# Altium footprint library sd2snes.PcbLib: 27 footprints (part 1 of 2)
Each footprint in its own frame and in the unit in brackets; x right, y up, seen from the top. Pads: shape width x height; smd on the part's side, far side on the other; paste and mask are expansions set on the pad; w line width, h text height; cw(c..) or ccw(c..) is an arc to the next point about the centre after c.
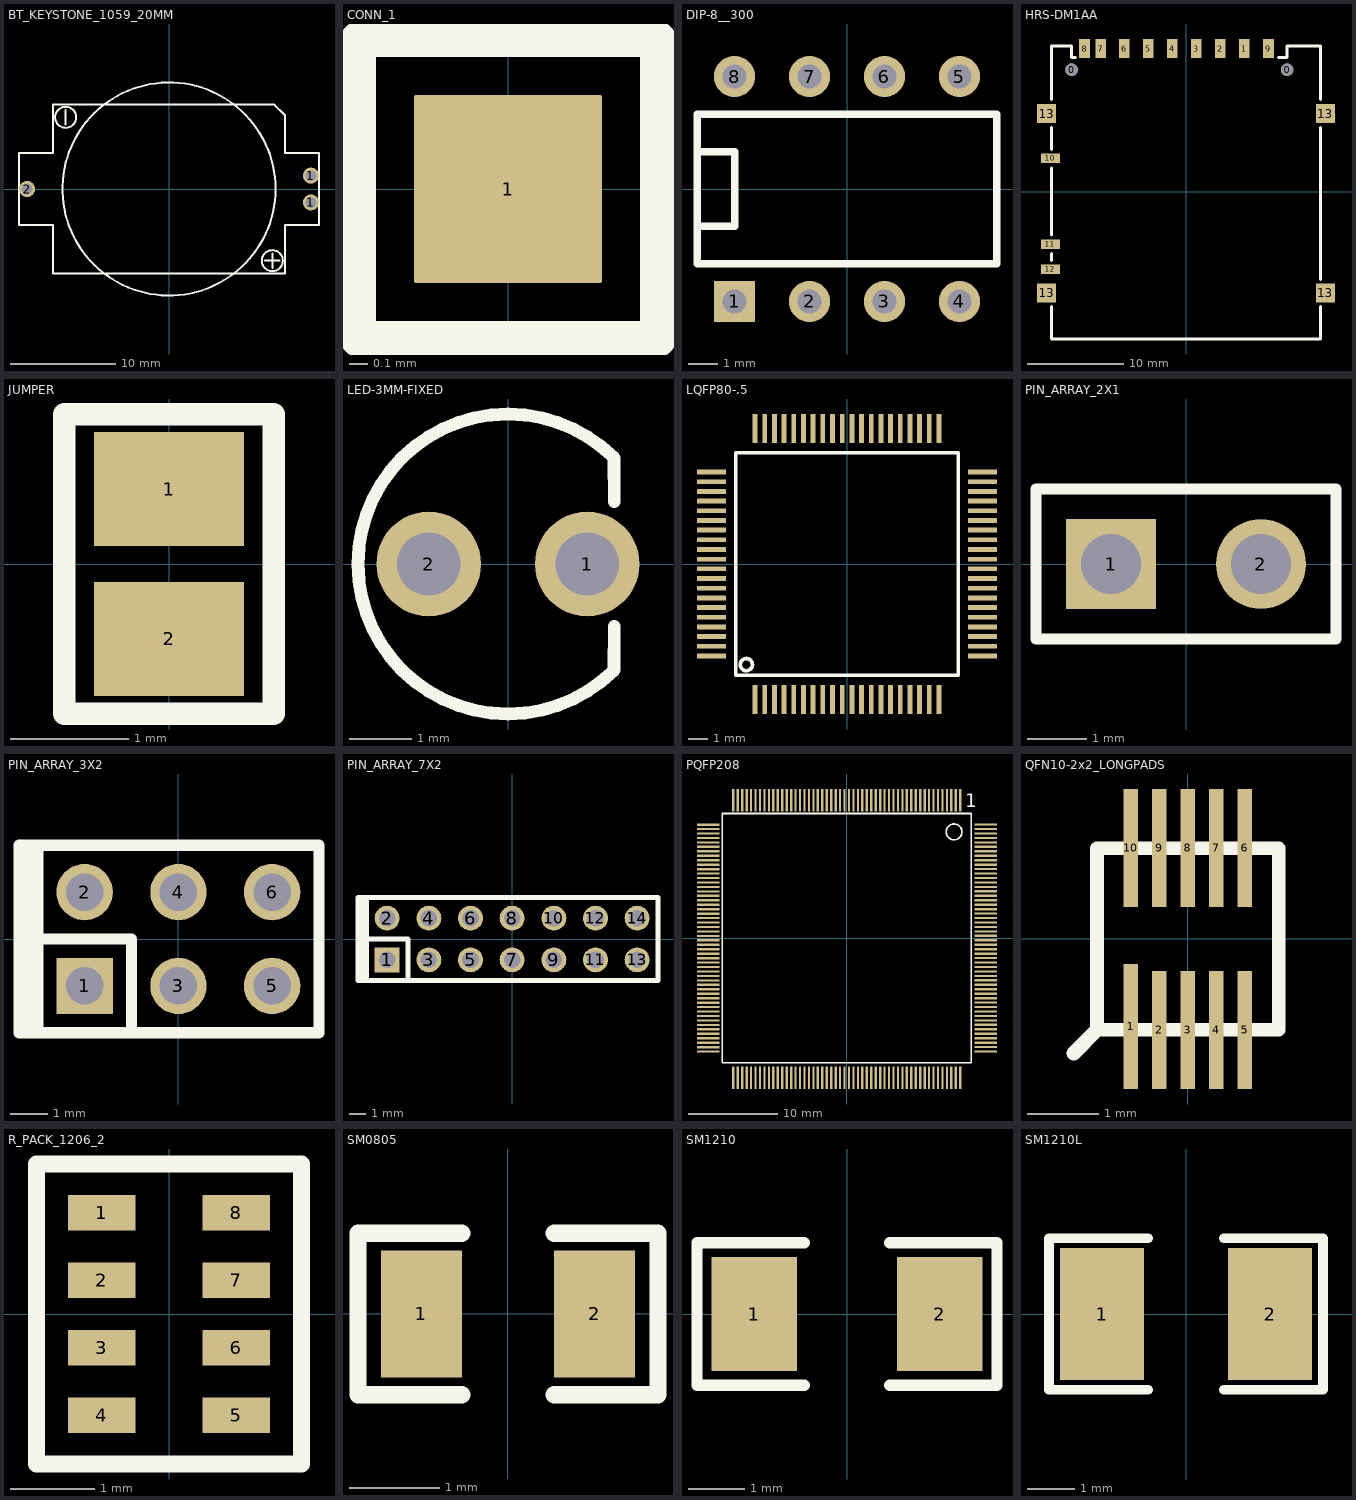
[diagram p0: the footprints below, top view; thin cyan lines are the x and y axes]

## BT_KEYSTONE_1059_20MM [mil]
pads (3):
  round 60 hole 40: 1(530,-50) 1(530,50) 2(-530,0)
Top Overlay:
  circle w7.5: c385.8,-267.7 r39.3
  circle w7.5: c-385.8,267.7 r39.3
  circle w7.5: c0,0 r397.6
  lines w7.5: -385.8,240.2 -385.8,295.3 ; 358.3,-267.7 413.4,-267.7 ; 385.8,-295.3 385.8,-240.2 ; -559.1,-133.9 -559.1,133.9 -433.1,133.9 -433.1,315 393.7,315 433.1,275.6 433.1,133.9 559.1,133.9 559.1,-133.9 433.1,-133.9 433.1,-315 -433.1,-315 -433.1,-133.9 -559.1,-133.9

## CONN_1 [mil]
pads (1):
  rrect1% 39.4x39.4 smd: 1(0,0)
Top Overlay:
  lines w7.5: -31.5,-31.5 31.5,-31.5 31.5,31.5 -31.5,31.5 -31.5,-31.5

## DIP-8__300 [mil]
pads (8):
  rrect1% 55x55 hole 32: 1(-150,-150)
  round 55 hole 32: 2(-50,-150) 3(50,-150) 4(150,-150) 5(150,150) 6(50,150) 7(-50,150) 8(-150,150)
Top Overlay:
  lines w10: -200,-50 -150,-50 -150,50 -200,50 ; -200,-100 200,-100 200,100 -200,100 -200,-100

## HRS-DM1AA [mil]
pads (18):
  round 51.2 hole 51.2 unplated: 0(-468.6,499.9) 0(413.3,499.9)
  rrect1% 43.3x78.7 smd: 1(239.1,586.5) 2(140.7,586.5) 3(42.2,586.5) 4(-56.2,586.5) 5(-154.6,586.5) 6(-253,586.5) 7(-348.5,586.5) 8(-415.5,586.5) 9(337.5,586.5)
  rrect1% 78.7x39.4 smd: 10(-555.2,137.7) 11(-555.2,-214.7) 12(-555.2,-317)
  rrect1% 78.7x78.7 smd: 13(-571,-413.5) 13(-571,320.8) 13(570.8,-413.5) 13(570.8,320.8)
Top Overlay:
  lines w12: -551,-469 -551,-602 551,-602 551,-469 ; -551,-280 -551,-252 ; -551,-177 -551,98 ; -551,173 -551,264 ; -551,378 -551,598 -469,598 -469,551 -453,551 ; 378,551 413,551 413,598 551,598 551,378 ; 551,-358 551,264

## JUMPER [mil]
pads (2):
  rrect1% 50x38 smd: 1(0,25) 2(0,-25)
Top Overlay:
  lines w7.5: -35,-50 -35,50 35,50 35,-50 -35,-50

## LED-3MM-FIXED [mil]
pads (2):
  round 66 hole 40: 1(50,0) 2(-50,0)
Top Overlay:
  lines w8: 67,-39.4 66.9,-66.9 cw(c0,0) 66.9,66.9 67,39.4

## LQFP80-.5 [mil]
pads (80):
  rrect1% 9.8x59 smd: 1(-187,-275.5) 2(-167.3,-275.5) 3(-147.6,-275.5) 4(-127.9,-275.5) 5(-108.3,-275.5) 6(-88.6,-275.5) 7(-68.9,-275.5) 8(-49.2,-275.5) 9(-29.5,-275.5) 10(-9.8,-275.5) 11(9.88,-275.5) 12(29.57,-275.5) 13(49.25,-275.5) 14(68.93,-275.5) 15(88.62,-275.5) 16(108.3,-275.5) 17(127.9,-275.5) 18(147.6,-275.5) 19(167.3,-275.5) 20(187,-275.5) 41(187,275.5) 42(167.3,275.5) 43(147.6,275.5) 44(127.9,275.5) 45(108.3,275.5) 46(88.62,275.5) 47(68.93,275.5) 48(49.25,275.5) 49(29.57,275.5) 50(9.88,275.5) 51(-9.8,275.5) 52(-29.5,275.5) 53(-49.2,275.5) 54(-68.9,275.5) 55(-88.6,275.5) 56(-108.3,275.5) 57(-127.9,275.5) 58(-147.6,275.5) 59(-167.3,275.5) 60(-187,275.5)
  rrect1% 59x9.8 smd: 21(275.5,-187) 22(275.5,-167.3) 23(275.5,-147.6) 24(275.5,-127.9) 25(275.5,-108.3) 26(275.5,-88.6) 27(275.5,-68.9) 28(275.5,-49.2) 29(275.5,-29.5) 30(275.5,-9.8) 31(275.5,9.8) 32(275.5,29.5) 33(275.5,49.2) 34(275.5,68.9) 35(275.5,88.6) 36(275.5,108.3) 37(275.5,127.9) 38(275.5,147.6) 39(275.5,167.3) 40(275.5,187) 61(-275.5,187) 62(-275.5,167.3) 63(-275.5,147.6) 64(-275.5,127.9) 65(-275.5,108.3) 66(-275.5,88.6) 67(-275.5,68.9) 68(-275.5,49.2) 69(-275.5,29.5) 70(-275.5,9.8) 71(-275.5,-9.8) 72(-275.5,-29.5) 73(-275.5,-49.2) 74(-275.5,-68.9) 75(-275.5,-88.6) 76(-275.5,-108.3) 77(-275.5,-127.9) 78(-275.5,-147.6) 79(-275.5,-167.3) 80(-275.5,-187)
Top Overlay:
  circle w7.5: c-204.7,-204.7 r12.4
  lines w7.5: -226.3,-226.3 -226.3,226.3 226.3,226.3 226.3,-226.3 -226.3,-226.3

## PIN_ARRAY_2X1 [mil]
pads (2):
  rrect1% 60x60 hole 40: 1(-50,0)
  round 60 hole 40: 2(50,0)
Top Overlay:
  lines w7.5: -100,-50 100,-50 100,50 -100,50 -100,-50

## PIN_ARRAY_3X2 [mil]
pads (6):
  rrect1% 60x60 hole 40: 1(-100,-50)
  round 60 hole 40: 2(-100,50) 3(0,-50) 4(0,50) 5(100,-50) 6(100,50)
Top Overlay:
  rectangle: -170,-100 -150,100
  lines w12: -150,0 -50,0 -50,-100 ; -150,-100 -170,-100 -170,100 -150,100 ; -150,-100 -150,100 ; -150,-100 150,-100 150,100 -150,100

## PIN_ARRAY_7X2 [mil]
pads (14):
  rrect1% 60x60 hole 40: 1(-300,-50)
  round 60 hole 40: 2(-300,50) 3(-200,-50) 4(-200,50) 5(-100,-50) 6(-100,50) 7(0,-50) 8(0,50) 9(100,-50) 10(100,50) 11(200,-50) 12(200,50) 13(300,-50) 14(300,50)
Top Overlay:
  rectangle: -370,-100 -350,100
  lines w12: -350,0 -250,0 -250,-100 ; -350,-100 -370,-100 -370,100 -350,100 ; -350,-100 -350,100 ; -350,-100 350,-100 350,100 -350,100

## PQFP208 [mil]
pads (208):
  rrect1% 10x100 smd: 1(502.3,610) 2(482.6,610) 3(462.9,610) 4(443.2,610) 5(423.5,610) 6(403.8,610) 7(384.1,610) 8(364.4,610) 9(344.7,610) 10(325,610) 11(305.3,610) 12(285.6,610) 13(265.9,610) 14(246.2,610) 15(226.5,610) 16(206.8,610) 17(187.1,610) 18(167.4,610) 19(147.7,610) 20(128,610) 21(108.3,610) 22(88.6,610) 23(68.9,610) 24(49.2,610) 25(29.5,610) 26(9.8,610) 27(-9.9,610) 28(-29.6,610) 29(-49.3,610) 30(-69,610) 31(-88.7,610) 32(-108.4,610) 33(-128.1,610) 34(-147.8,610) 35(-167.5,610) 36(-187.2,610) 37(-206.9,610) 38(-226.6,610) 39(-246.3,610) 40(-266,610) 41(-285.7,610) 42(-305.4,610) 43(-325.1,610) 44(-344.8,610) 45(-364.5,610) 46(-384.2,610) 47(-403.9,610) 48(-423.6,610) 49(-443.3,610) 50(-463,610) 51(-482.7,610) 52(-502.4,610) 105(-502.3,-618) 106(-482.6,-618) 107(-462.9,-618) 108(-443.2,-618) 109(-423.5,-618) 110(-403.8,-618) 111(-384.1,-618) 112(-364.4,-618) 113(-344.7,-618) 114(-325,-618) 115(-305.3,-618) 116(-285.6,-618) 117(-265.9,-618) 118(-246.2,-618) 119(-226.5,-618) 120(-206.8,-618) 121(-187.1,-618) 122(-167.4,-618) 123(-147.7,-618) 124(-128,-618) 125(-108.3,-618) 126(-88.6,-618) 127(-68.9,-618) 128(-49.2,-618) 129(-29.5,-618) 130(-9.8,-618) 131(9.9,-618) 132(29.6,-618) 133(49.3,-618) 134(69,-618) 135(88.7,-618) 136(108.4,-618) 137(128.1,-618) 138(147.8,-618) 139(167.5,-618) 140(187.2,-618) 141(206.9,-618) 142(226.6,-618) 143(246.3,-618) 144(266,-618) 145(285.7,-618) 146(305.4,-618) 147(325.1,-618) 148(344.8,-618) 149(364.5,-618) 150(384.2,-618) 151(403.9,-618) 152(423.6,-618) 153(443.3,-618) 154(463,-618) 155(482.7,-618) 156(502.4,-618)
  rrect1% 100x10 smd: 53(-613,502.3) 54(-613,482.6) 55(-613,462.9) 56(-613,443.2) 57(-613,423.5) 58(-613,403.8) 59(-613,384.1) 60(-613,364.4) 61(-613,344.7) 62(-613,325) 63(-613,305.3) 64(-613,285.6) 65(-613,265.9) 66(-613,246.2) 67(-613,226.5) 68(-613,206.8) 69(-613,187.1) 70(-613,167.4) 71(-613,147.7) 72(-613,128) 73(-613,108.3) 74(-613,88.6) 75(-613,68.9) 76(-613,49.2) 77(-613,29.5) 78(-613,9.8) 79(-613,-9.9) 80(-613,-29.6) 81(-613,-49.3) 82(-613,-69) 83(-613,-88.7) 84(-613,-108.4) 85(-613,-128.1) 86(-613,-147.8) 87(-613,-167.5) 88(-613,-187.2) 89(-613,-206.9) 90(-613,-226.6) 91(-613,-246.3) 92(-613,-266) 93(-613,-285.7) 94(-613,-305.4) 95(-613,-325.1) 96(-613,-344.8) 97(-613,-364.5) 98(-613,-384.2) 99(-613,-403.9) 100(-613,-423.6) 101(-613,-443.3) 102(-613,-463) 103(-613,-482.7) 104(-613,-502.4) 157(615,-502.3) 158(615,-482.6) 159(615,-462.9) 160(615,-443.2) 161(615,-423.5) 162(615,-403.8) 163(615,-384.1) 164(615,-364.4) 165(615,-344.7) 166(615,-325) 167(615,-305.3) 168(615,-285.6) 169(615,-265.9) 170(615,-246.2) 171(615,-226.5) 172(615,-206.8) 173(615,-187.1) 174(615,-167.4) 175(615,-147.7) 176(615,-128) 177(615,-108.3) 178(615,-88.6) 179(615,-68.9) 180(615,-49.2) 181(615,-29.5) 182(615,-9.8) 183(615,9.9) 184(615,29.6) 185(615,49.3) 186(615,69) 187(615,88.7) 188(615,108.4) 189(615,128.1) 190(615,147.8) 191(615,167.5) 192(615,187.2) 193(615,206.9) 194(615,226.6) 195(615,246.3) 196(615,266) 197(615,285.7) 198(615,305.4) 199(615,325.1) 200(615,344.8) 201(615,364.5) 202(615,384.2) 203(615,403.9) 204(615,423.6) 205(615,443.3) 206(615,463) 207(615,482.7) 208(615,502.4)
Top Overlay:
  circle w7.5: c475,470 r35
  lines w7.5: -551.2,-551.2 551.2,-551.2 551.2,551.2 -551.2,551.2 -551.2,-551.2
  text "1" at 525,580 h60

## QFN10-2x2_LONGPADS [mil]
pads (10):
  rrect1% 7.9x69 smd: 1(-31.4,-48.3)
  rrect1% 7.9x65.1 smd: 2(-15.7,-50.2) 3(0,-50.2) 4(15.7,-50.2) 5(31.4,-50.2) 6(31.4,50.2) 7(15.7,50.2) 8(0,50.2) 9(-15.7,50.2) 10(-31.4,50.2)
Top Overlay:
  lines w7.5: -50.1,-50.1 -50.1,50.1 50.1,50.1 50.1,-50.1 -50.1,-50.1
  lines w8: -63,-63 -50.1,-50.1

## R_PACK_1206_2 [mil]
pads (8):
  rrect1% 31.4x16.5 smd: 1(-31.4,47.2) 2(-31.4,15.7) 3(-31.4,-15.7) 4(-31.4,-47.2) 5(31.4,-47.2) 6(31.4,-15.7) 7(31.4,15.7) 8(31.4,47.2)
Top Overlay:
  lines w7.8: -61.8,-70 -61.8,70 61.8,70 61.8,-70 -61.8,-70

## SM0805 [mil]
pads (2):
  rrect1% 35x55 smd: 1(-37.5,0) 2(37.5,0)
Top Overlay:
  lines w7.5: -20,-35 -65,-35 -65,35 -20,35 ; 20,-35 65,-35 65,35 20,35

## SM1210 [mil]
pads (2):
  rrect1% 60x80 smd: 1(-65,0) 2(65,0)
Top Overlay:
  lines w8: -30,-50 -105,-50 -105,50 -30,50 ; 30,-50 105,-50 105,50 30,50

## SM1210L [mil]
pads (2):
  rrect1% 70x110 smd: 1(-70,0) 2(70,0)
Top Overlay:
  lines w8: -31.5,-63 -114.2,-63 -114.2,63 -31.5,63 ; 31.5,-63 114.2,-63 114.2,63 31.5,63